# EAGLE library part R-ARRAY-8X (library p.peter-rcl)
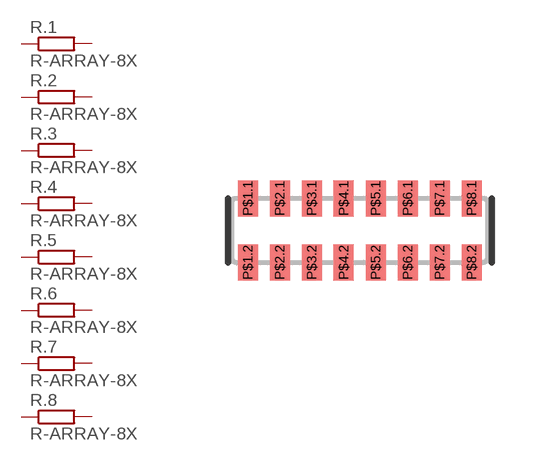
[diagram p2: symbol with the pads of R-ARRAY-8X-CTS-0603; footprint R-ARRAY-8X-CTS-0603]

Designator prefix R; gates .1=R-EU .2=R-EU .3=R-EU .4=R-EU .5=R-EU .6=R-EU .7=R-EU .8=R-EU

## R-ARRAY-8X  [R-ARRAY-8X-CTS-0603]
P$1.1  .1:1  pas
P$1.2  .1:2  pas
P$2.1  .2:1  pas
P$2.2  .2:2  pas
P$3.1  .3:1  pas
P$3.2  .3:2  pas
P$4.1  .4:1  pas
P$4.2  .4:2  pas
P$5.1  .5:1  pas
P$5.2  .5:2  pas
P$6.1  .6:1  pas
P$6.2  .6:2  pas
P$7.1  .7:1  pas
P$7.2  .7:2  pas
P$8.1  .8:1  pas
P$8.2  .8:2  pas

## Footprint R-ARRAY-8X-CTS-0603 (pad centres in mm)
CTS Components 742C163
smd 0.5 x 0.9: P$1.1 -2.8,0.8; P$1.2 -2.8,-0.8; P$2.1 -2,0.8; P$2.2 -2,-0.8; P$3.1 -1.2,0.8; P$3.2 -1.2,-0.8; P$4.1 -0.4,0.8; P$4.2 -0.4,-0.8; P$5.1 0.4,0.8; P$5.2 0.4,-0.8; P$6.1 1.2,0.8; P$6.2 1.2,-0.8; P$7.1 2,0.8; P$7.2 2,-0.8; P$8.1 2.8,0.8; P$8.2 2.8,-0.8